# Altium footprint library PCB - LEADLESS - DFN - ANALOG DEV DFN-10 3X3MM DD.PCBLIB: 1 footprints
Each footprint in its own frame and in the unit in brackets; x right, y up, seen from the top. Pads: shape width x height; smd on the part's side, far side on the other; paste and mask are expansions set on the pad; w line width, h text height; cw(c..) or ccw(c..) is an arc to the next point about the centre after c.
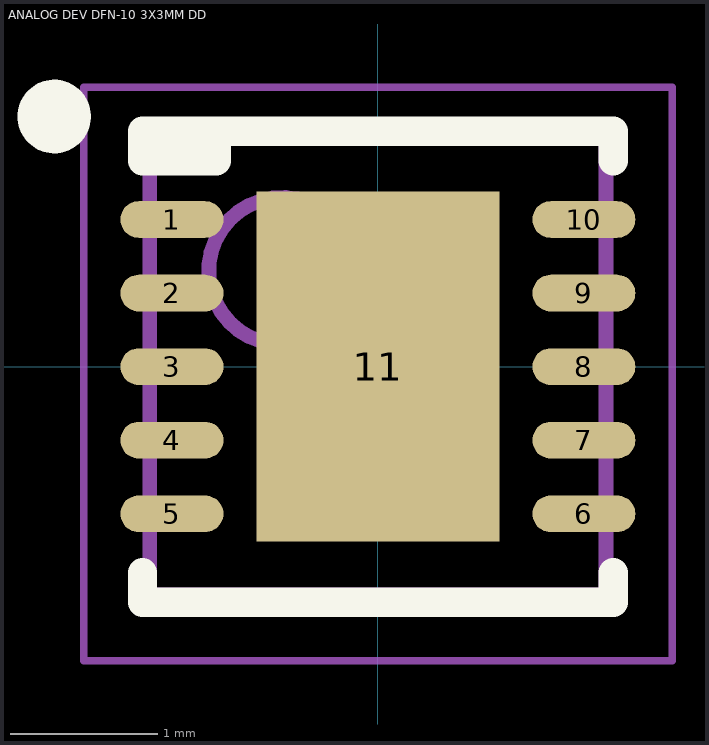
[diagram p0: the footprint, top view; thin cyan lines are the x and y axes]

## ANALOG DEV DFN-10 3X3MM DD [mm] "DFN, 10-Leads, Body 3.00x3.00mm, Pitch 0.50mm, Thermal Pad 1.65x2.38mm, IPC Medium Density"
height 0.75
pads (11):
  oval 0.7x0.25 smd: 1(-1.4,1) 2(-1.4,0.5) 3(-1.4,0) 4(-1.4,-0.5) 5(-1.4,-1) 6(1.4,-1) 7(1.4,-0.5) 8(1.4,0) 9(1.4,0.5) 10(1.4,1)
  rect 1.65x2.38 smd: 11(0,0)
Top Overlay:
  circle w0.25: c-2.2,1.7 r0.125
  rectangle: -1.6,1.4 -1.1,1.6
  lines w0.2: -1.6,-1.4 -1.6,-1.6 1.6,-1.6 1.6,-1.4 ; -1.1,1.6 -1.1,1.4 -1.6,1.4 -1.6,1.6 1.6,1.6 1.6,1.4
Top Assembly:
  circle w0.1: c-0.65,0.65 r0.5
  lines w0.1: -1.55,-1.55 1.55,-1.55 1.55,1.55 -1.55,1.55 -1.55,-1.55
Top Courtyard:
  lines w0.05: -2,-2 2,-2 2,1.9 -2,1.9 -2,-2
Top Component Center (Mech9):
  lines w0.1: -0.5,0 0.5,0 ; 0,-0.5 0,0.5
3D body: height 0.75, standoff 0.01, extent -1.55,-1.55 1.55,1.55